# Altium schematic symbol library TPS2553DBVT.SchLib: 1 symbol
Pins are listed as number, name and electrical type; pins without a type are passive.

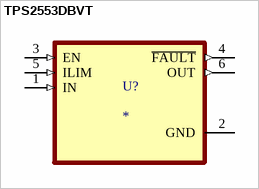
[diagram p0: symbol TPS2553DBVT]

## TPS2553DBVT
designator U?
75mA - 1.5A, adjustable ILIMIT, 2.5-6.5V, high enable, power switch, 85 mOhm 6-SOT-23 -40 to 85; MF: Texas Instruments; MP: TPS2553DBVT; Price: None; Value: *; Check_prices: https://www.snapeda.com/parts/TPS2553DBVT/Texas%20Instruments/view-part/425867/?ref=eda; Purchase-URL: https://pricing.snapeda.com/search/part/TPS2553DBVT/?ref=eda; Package: SOT-23-6 Texas Instruments; SnapEDA_Link: https://www.snapeda.com/parts/TPS2553DBVT/Texas%20Instruments/view-part/425867/?ref=snap; Availability: Warning
footprint SOT95P280X145-6N
pins: 1 IN (in), 2 GND (power), 3 EN (in), 4 ~{FAULT} (out), 5 ILIM (in), 6 OUT (out)